# EAGLE library part RASPBERRY_PI_ZERO_PTH (library SamacSys_Parts)
Raspberry Pi Zero W (v1.3) Single-board Computers Source: Datasheet <https://cdn.sparkfun.com/assets/learn_tutorials/6/7/6/PiZero_1.pdf>
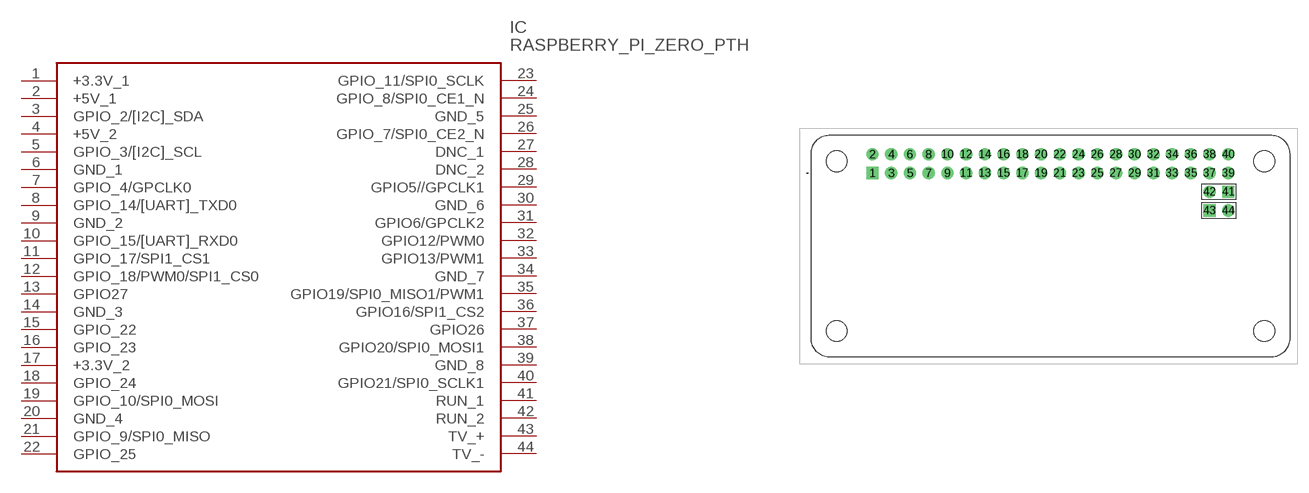
[diagram p1: symbol with the pads of RASPBERRYPIZEROWV13; footprint RASPBERRYPIZEROWV13]

Designator prefix IC

## RASPBERRY_PI_ZERO_PTH (DESCRIPTION: Raspberry Pi Zero W (v1.3) Single-board Computers; HEIGHT: mm; MANUFACTURER_NAME: RASPBERRY-PI; MANUFACTURER_PART_NUMBER: Raspberry Pi Zero W (v1.3))  [RASPBERRYPIZEROWV13]
1  +3.3V_1
2  +5V_1
3  GPIO_2/[I2C]_SDA
4  +5V_2
5  GPIO_3/[I2C]_SCL
6  GND_1
7  GPIO_4/GPCLK0
8  GPIO_14/[UART]_TXD0
9  GND_2
10  GPIO_15/[UART]_RXD0
11  GPIO_17/SPI1_CS1
12  GPIO_18/PWM0/SPI1_CS0
13  GPIO27
14  GND_3
15  GPIO_22
16  GPIO_23
17  +3.3V_2
18  GPIO_24
19  GPIO_10/SPI0_MOSI
20  GND_4
21  GPIO_9/SPI0_MISO
22  GPIO_25
23  GPIO_11/SPI0_SCLK
24  GPIO_8/SPI0_CE1_N
25  GND_5
26  GPIO_7/SPI0_CE2_N
27  DNC_1
28  DNC_2
29  GPIO5//GPCLK1
30  GND_6
31  GPIO6/GPCLK2
32  GPIO12/PWM0
33  GPIO13/PWM1
34  GND_7
35  GPIO19/SPI0_MISO1/PWM1
36  GPIO16/SPI1_CS2
37  GPIO26
38  GPIO20/SPI0_MOSI1
39  GND_8
40  GPIO21/SPI0_SCLK1
41  RUN_1
42  RUN_2
43  TV_+
44  TV_-

## Footprint RASPBERRYPIZEROWV13 (pad centres in mm)
Raspberry Pi Zero W (v1.3)_1
drill 1.11 pad 1.665 square: 1 -23.885,9.92; 41 24.375,7.38; 43 21.835,4.84
drill 1.11 pad 1.665: 2 -23.885,12.46; 3 -21.345,9.92; 4 -21.345,12.46; 5 -18.805,9.92; 6 -18.805,12.46; 7 -16.265,9.92; 8 -16.265,12.46; 9 -13.725,9.92; 10 -13.725,12.46; 11 -11.185,9.92; 12 -11.185,12.46; 13 -8.645,9.92; 14 -8.645,12.46; 15 -6.105,9.92; 16 -6.105,12.46; 17 -3.565,9.92; 18 -3.565,12.46; 19 -1.025,9.92; 20 -1.025,12.46; 21 1.515,9.92; 22 1.515,12.46; 23 4.055,9.92; 24 4.055,12.46; 25 6.595,9.92; 26 6.595,12.46; 27 9.135,9.92; 28 9.135,12.46; 29 11.675,9.92; 30 11.675,12.46; 31 14.215,9.92; 32 14.215,12.46; 33 16.755,9.92; 34 16.755,12.46; 35 19.295,9.92; 36 19.295,12.46; 37 21.835,9.92; 38 21.835,12.46; 39 24.375,9.92; 40 24.375,12.46; 42 21.835,7.38; 44 24.375,4.84
hole 2.8 at -28.755,11.5
hole 2.8 at -28.755,-11.5
hole 2.8 at 29.245,-11.5
hole 2.8 at 29.245,11.5